# Altium footprint library PcbLib1.PcbLib: 2 footprints
Each footprint in its own frame and in the unit in brackets; x right, y up, seen from the top. Pads: shape width x height; smd on the part's side, far side on the other; paste and mask are expansions set on the pad; w line width, h text height; cw(c..) or ccw(c..) is an arc to the next point about the centre after c.
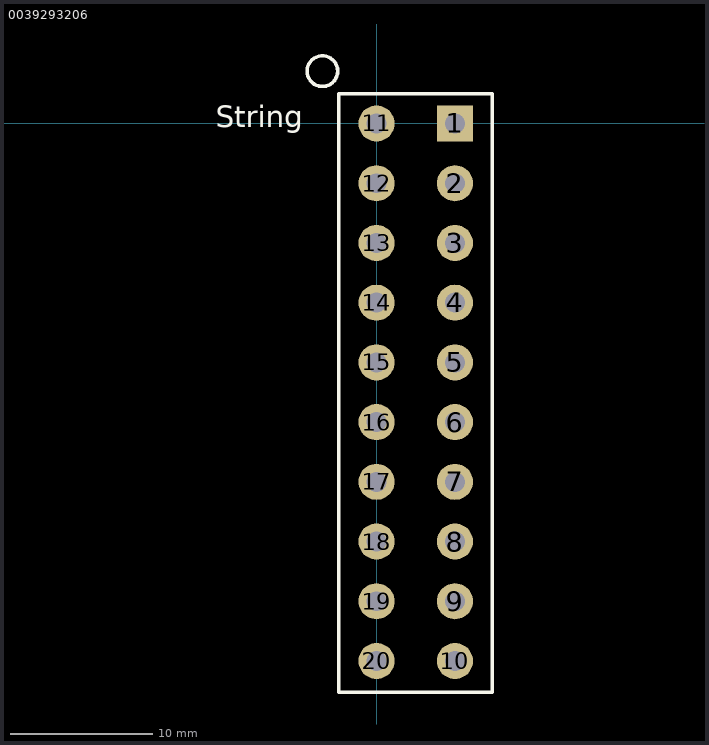
[diagram p0: the footprints below, top view; thin cyan lines are the x and y axes]

## 0039293206 [mil]
pads (20):
  rect 100x100 hole 55: 1(217,0)
  round 100 hole 55: 2(217,-165.4) 3(217,-330.8) 4(217,-496.2) 5(217,-661.6) 6(217,-827) 7(217,-992.4) 8(217,-1157.8) 9(217,-1323.2) 10(217,-1488.6) 11(0,0) 12(0,-165.4) 13(0,-330.8) 14(0,-496.2) 15(0,-661.6) 16(0,-827) 17(0,-992.4) 18(0,-1157.8) 19(0,-1323.2) 20(0,-1488.6)
Top Overlay:
  circle w10: c-150,145 r42.43
  lines w10: -105,-1575 -105,82.7 67.15,82.7 149.85,82.7 320,82.7 320,-1575 -105,-1575
  text "String" at -445,-10 h60

## PCBComponent_1 [mil]